# Altium schematic symbol library 90151-2124.SchLib: 1 symbol
Pins are listed as number, name and electrical type; pins without a type are passive.

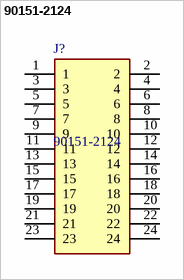
[diagram p0: symbol 90151-2124]

## 90151-2124
designator J?
Headers & Wire Housings C-Grid PCB Conn DR Vt Tn-A 24Ckt; Manufacturer_Name: Molex; Geometry.Height: 8.7mm; TTI Part Number: *; TTI Price/Stock: *; Manufacturer_Part_Number: 90151-2124; Datasheet Link: https://www.molex.com/pdm_docs/sd/901512124_sd.pdf
footprint RHDR24W64P254_2X12_3033X498X870P
pins: 1, 2, 3, 4, 5, 6, 7, 8, 9, 10, 11, 12, 13, 14, 15, 16, 17, 18, 19, 20, 21, 22, 23, 24